# EAGLE library part CY7C909 (library dms-cypress)
4-bit bit-slice microprogram sequencer
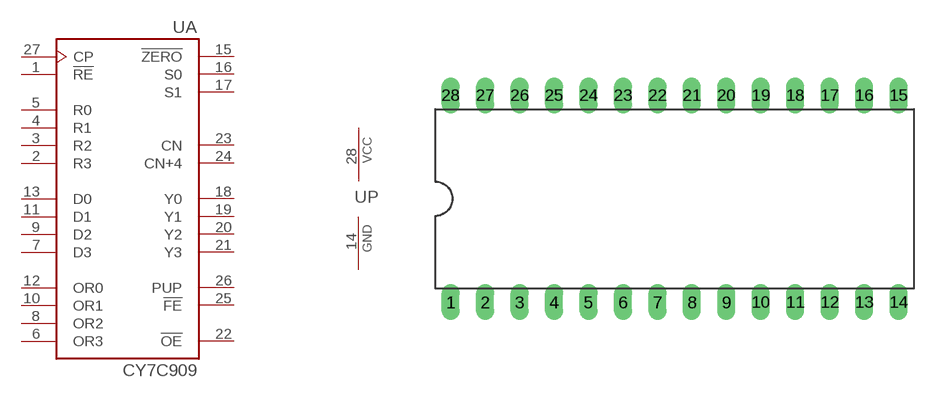
[diagram p1: symbol with the pads of DIL28-6; footprint DIL28-6]

Designator prefix U; gates A=CY7C909 P=PWRN

## CY7C909  [DIL28-6]
1  A:!RE  in
2  A:R3  in
3  A:R2  in
4  A:R1  in
5  A:R0  in
6  A:OR3  in
7  A:D3  in
8  A:OR2  in
9  A:D2  in
10  A:OR1  in
11  A:D1  in
12  A:OR0  in
13  A:D0  in
14  P:GND  pwr
15  A:!ZERO  in
16  A:S0  in
17  A:S1  in
18  A:Y0  out
19  A:Y1  out
20  A:Y2  out
21  A:Y3  out
22  A:!OE  in
23  A:CN  in
24  A:CN+4  out
25  A:!FE  in
26  A:PUP  in
27  A:CP  in
28  P:VCC  pwr

## Footprint DIL28-6 (pad centres in mm)
Dual In Line Package 0.6 inch
drill 0.813 long: 1 -16.51,-7.62; 2 -13.97,-7.62; 3 -11.43,-7.62; 4 -8.89,-7.62; 5 -6.35,-7.62; 6 -3.81,-7.62; 7 -1.27,-7.62; 8 1.27,-7.62; 9 3.81,-7.62; 10 6.35,-7.62; 11 8.89,-7.62; 12 11.43,-7.62; 13 13.97,-7.62; 14 16.51,-7.62; 15 16.51,7.62; 16 13.97,7.62; 17 11.43,7.62; 18 8.89,7.62; 19 6.35,7.62; 20 3.81,7.62; 21 1.27,7.62; 22 -1.27,7.62; 23 -3.81,7.62; 24 -6.35,7.62; 25 -8.89,7.62; 26 -11.43,7.62; 27 -13.97,7.62; 28 -16.51,7.62